# EAGLE library part USB_C (library ds_con)
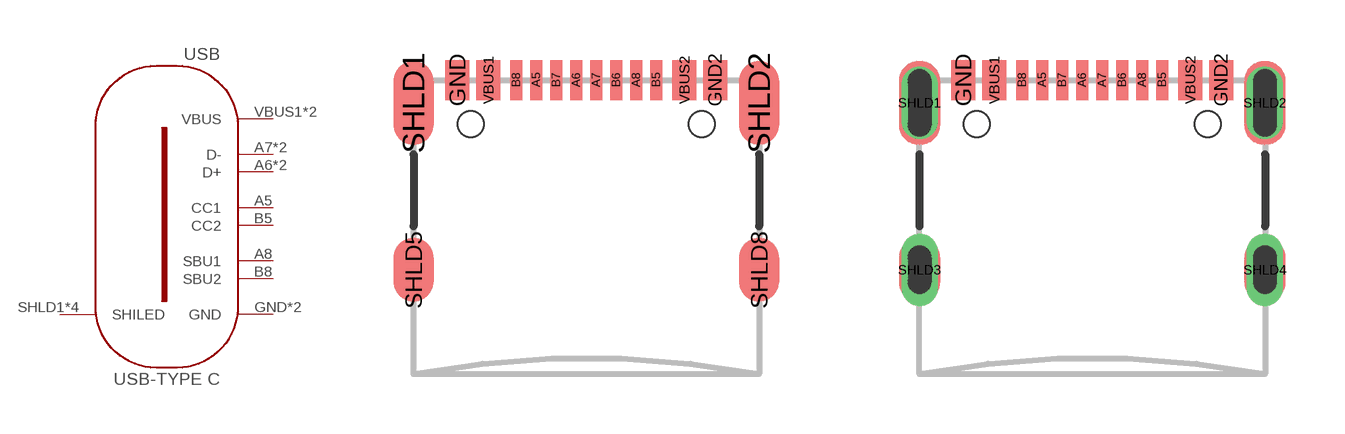
[diagram p22: symbol with the pads of USBC; footprints USBC, USB-C]

Designator prefix USB

## USB_C  [USBC]
A5  CC1
A6  D+
A7  D-
A8  SBU1
B5  CC2
B6  D+
B7  D-
B8  SBU2
GND  GND  pwr
GND2  GND  pwr
SHLD1  SHILED  pwr
SHLD2  SHILED  pwr
SHLD5  SHILED  pwr
SHLD8  SHILED  pwr
VBUS1  VBUS  pwr
VBUS2  VBUS  pwr

## USB_C-THT (DESCRIPTION: 3A 1 Horizontal attachment 16P Female -25℃~+85℃ Type-C SMD USB Connectors ROHS; HQ_PART: ZHLM0322915; LCSC_PART: C2927038; MANUFACTURER: DEALON; MPN: USB-TYPE-C-018; ROHS: YES; VALUE: USB-TYPE-C-018)  [USB-C]
A5  CC1
A6  D+
A7  D-
A8  SBU1
B5  CC2
B6  D+
B7  D-
B8  SBU2
GND  GND  pwr
GND2  GND  pwr
SHLD1  SHILED  pwr
SHLD2  SHILED  pwr
SHLD3  SHILED  pwr
SHLD4  SHILED  pwr
VBUS1  VBUS  pwr
VBUS2  VBUS  pwr

## Footprint USBC (pad centres in mm)
smd 0.3 x 1: A5 -1.25,3.47; A6 -0.25,3.47; A7 0.25,3.47; A8 1.25,3.47; B5 1.75,3.47; B6 0.75,3.47; B7 -0.75,3.47; B8 -1.75,3.47
smd 0.6 x 1: GND -3.225,3.47; GND2 3.225,3.47; VBUS1 -2.45,3.47; VBUS2 2.45,3.47
smd 1 x 2.1: SHLD1 -4.32,2.895; SHLD2 4.32,2.895
smd 1 x 1.6: SHLD5 -4.32,-1.285; SHLD8 4.32,-1.285
hole 0.65 at -2.89,2.365
hole 0.65 at 2.89,2.365

## Footprint USB-C (pad centres in mm)
smd 0.3 x 1: A5 -1.18,3.37; A6 -0.18,3.37; A7 0.32,3.37; A8 1.32,3.37; B5 1.82,3.37; B6 0.82,3.37; B7 -0.68,3.37; B8 -1.68,3.37
smd 0.6 x 1: GND -3.155,3.37; GND2 3.295,3.37; VBUS1 -2.38,3.37; VBUS2 2.52,3.37
drill 0.4 pad 0.6 long: SHLD1 -4.248,2.795; SHLD2 4.388,2.795; SHLD3 -4.248,-1.385; SHLD4 4.388,-1.385
hole 0.65 at -2.82,2.265
hole 0.65 at 2.96,2.265